# Altium footprint library CAPPM600X320X280L130X220N.PcbLib: 1 footprints
Each footprint in its own frame and in the unit in brackets; x right, y up, seen from the top. Pads: shape width x height; smd on the part's side, far side on the other; paste and mask are expansions set on the pad; w line width, h text height; cw(c..) or ccw(c..) is an arc to the next point about the centre after c.
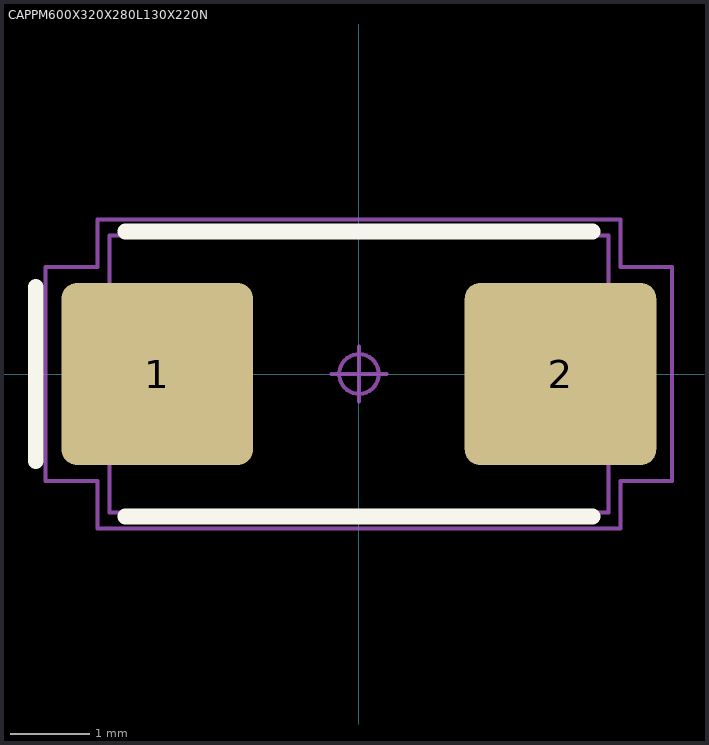
[diagram p0: the footprint, top view; thin cyan lines are the x and y axes]

## CAPPM600X320X280L130X220N [mm] "Capacitor, Polarized, Molded Body; 5.90 mm L X 3.20 mm W X 2.80 mm H body"
height 2.8
pads (2):
  rrect17% 2.42x2.3 smd mask+0.05: 1(-2.545,0) 2(2.545,0)
Top Overlay:
  lines w0.2: -4.08,-1.1 -4.08,1.1 ; -2.95,-1.8 2.95,-1.8 ; -2.95,1.8 2.95,1.8
Mechanical 11:
  lines w0.05: -3.15,-1.75 -3.15,1.75 3.15,1.75 3.15,-1.75 -3.15,-1.75
Mechanical 15:
  circle w0.05: c0,0 r0.25
  lines w0.05: -0.35,0 0.35,0 ; 0,-0.35 0,0.35 ; -3.955,-1.35 -3.955,1.35 -3.3,1.35 -3.3,1.95 3.3,1.95 3.3,1.35 3.955,1.35 3.955,-1.35 3.3,-1.35 3.3,-1.95 -3.3,-1.95 -3.3,-1.35 -3.955,-1.35
3D body "CAPPM600X320X280L130X220.STEP": height 2.8, standoff 0, extent -3.15,-1.75 3.15,1.75